# Altium schematic symbol library STM32F103C8T6.SCHLIB: 13 symbols
Pins are listed as number, name and electrical type; pins without a type are passive.

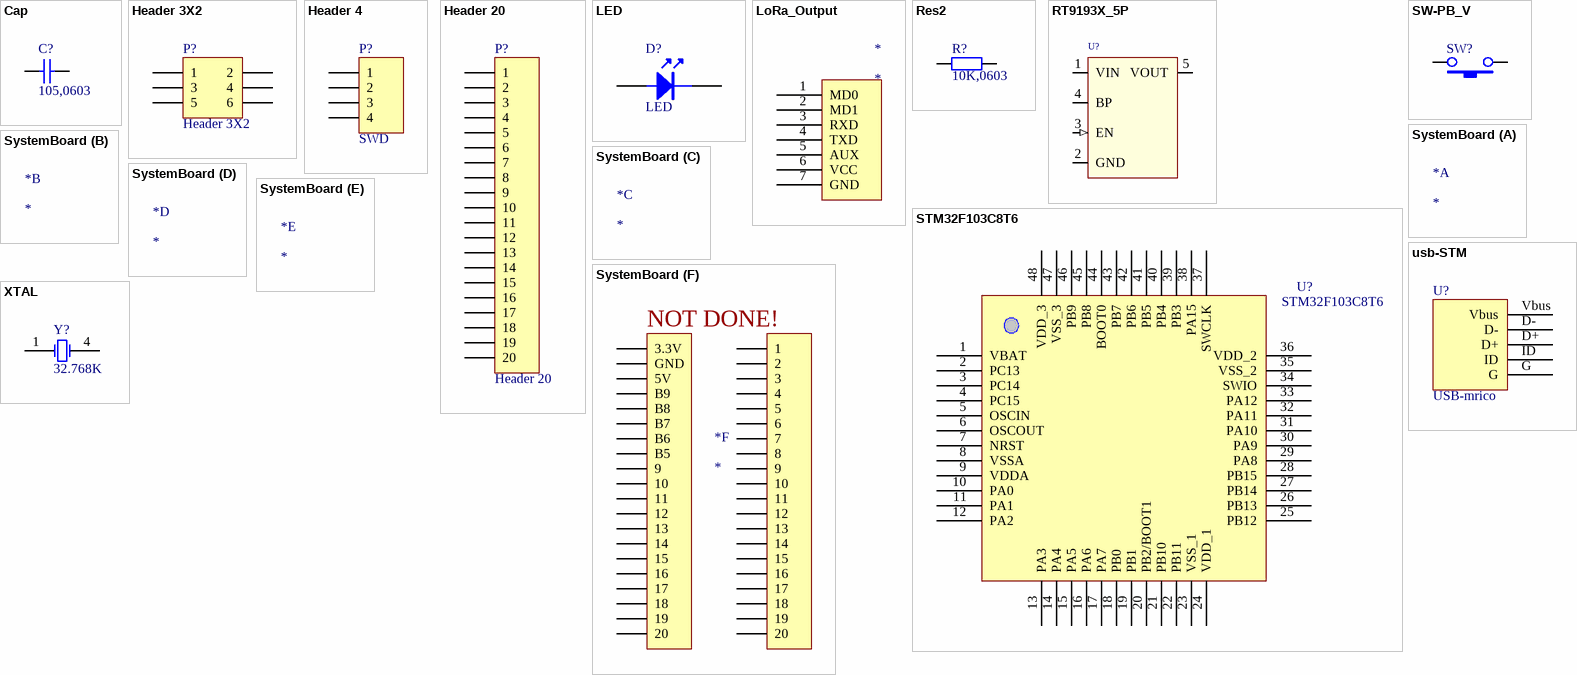
[diagram p0: symbols Cap to XTAL]

## Cap
designator C?, comment 105,0603
Capacitor; Value: 104; Published: 8-Jun-2000; LatestRevisionDate: 17-Jul-2002; LatestRevisionNote: Re-released for DXP Platform.; Publisher: Altium Limited
footprint CC2012-0805 (Chip Capacitor; Body 2.0 x 1.2 mm (LxW typ))
footprint CAPR2.54-5.1x3.2 (Capacitor, Ceramic, Thru-Hole, Dipped Radial; Body 5.1 x 3.2 mm (WxT) Pin Spacing 2.54 mm (typ))
footprint CAPR5.08-7.8x3.2 (Capacitor, Ceramic, Thru-Hole, Dipped Radial; Body 7.8 x 3.2 mm (WxT) Pin Spacing 5.08 mm (typ))
simulation model CAP (Capacitor)
signal-integrity model Cap
footprint C0603
pins: 1, 2

## Header 3X2
designator P?
Header, 3-Pin, Dual row; LatestRevisionDate: 17-Jul-2002; LatestRevisionNote: Re-released for DXP Platform.; Publisher: Altium Limited
footprint HDR2X3 (Connector; Header; 3x2 Position)
signal-integrity model Connector
pins: 1, 2, 3, 4, 5, 6

## Header 4
designator P?, comment SWD
Header, 4-Pin; LatestRevisionDate: 17-Jul-2002; LatestRevisionNote: Re-released for DXP Platform.; Publisher: Altium Limited
footprint HDR1X4 (Connector; Header; 4 Position)
signal-integrity model Connector
pins: 1, 2, 3, 4

## Header 20
designator P?
Header, 20-Pin; LatestRevisionDate: 17-Jul-2002; LatestRevisionNote: Re-released for DXP Platform.; Publisher: Altium Limited
footprint HDR1X20 (Connector; Header; 20 Position)
signal-integrity model Connector
pins: 1, 2, 3, 4, 5, 6, 7, 8, 9, 10, 11, 12, 13, 14, 15, 16, 17, 18, 19, 20

## LED
designator D?
footprint LED; pin to pad A>1 K>2
pins: A 1, K 2

## LoRa_Output
designator *
footprint LoRa_Output
pins: 1 MD0, 2 MD1, 3 RXD, 4 TXD, 5 AUX, 6 VCC, 7 GND

## Res2
designator R?, comment 10K,0603
Resistor; Published: 8-Jun-2000; LatestRevisionDate: 17-Jul-2002; LatestRevisionNote: Re-released for DXP Platform.; Publisher: Altium Limited
footprint CR2012-0805 (Chip Resistor; Body 2.0 x 1.3 mm (LxW typ))
simulation model RESISTOR (Resistor)
signal-integrity model Res
footprint R0603
pins: 1, 2

## RT9193X_5P
designator U?, comment RT9193  (value not drawn)
ICA_MFR_NAME: RICHTEK; ICA_PARTNUM: $$2191094$$RT9193-15CU5; Part Number: TMP-13
footprint SOT-23-5
pins: 1 VIN (power), 2 GND (power), 3 EN (in), 4 BP, 5 VOUT (power)

## STM32F103C8T6
designator U?
footprint 48P
pins: 1 VBAT, 2 PC13, 3 PC14, 4 PC15, 5 OSCIN, 6 OSCOUT, 7 NRST, 8 VSSA, 9 VDDA, 10 PA0, 11 PA1, 12 PA2, 13 PA3, 14 PA4, 15 PA5, 16 PA6, 17 PA7, 18 PB0, 19 PB1, 20 PB2/BOOT1, 21 PB10, 22 PB11, 23 VSS_1, 24 VDD_1, 25 PB12, 26 PB13, 27 PB14, 28 PB15, 29 PA8, 30 PA9, 31 PA10, 32 PA11, 33 PA12, 34 SWIO, 35 VSS_2, 36 VDD_2, 37 SWCLK, 38 PA15, 39 PB3, 40 PB4, 41 PB5, 42 PB6, 43 PB7, 44 BOOT0, 45 PB8, 46 PB9, 47 VSS_3, 48 VDD_3

## SW-PB_V
designator SW?
SWITCH
footprint KEY-SMT
footprint SW/4/SMT
footprint SW/2/R1
footprint KEY/01
pins: 1, 2

## SystemBoard
designator *
the connector of the min system board to mother board
part F pins: 1 3.3V, 1, 2 GND, 2, 3 5V, 3, 4 B9, 4, 5 B8, 5, 6 B7, 6, 7 B6, 7, 8 B5, 8, 9, 9, 10, 10, 11, 11, 12, 12, 13, 13, 14, 14, 15, 15, 16, 16, 17, 17, 18, 18, 19, 19, 20, 20
part F text: NOT DONE!

## usb-STM
designator U?, comment USB-mrico
footprint Micro_USB
footprint Micro_USB
pins: D+, D-, G, ID, Vbus

## XTAL
designator Y?, comment 32.768K
Crystal Oscillator; Published: 8-Jun-2000; LatestRevisionDate: 17-Jul-2002; LatestRevisionNote: Re-released for DXP Platform.; Publisher: Altium Limited
footprint X/2.5/2/6/2.5
simulation model XTAL (Spice Subcircuit)
pins: 1 OSC1, 4 OSC2